# EAGLE library part MCC162B3-1-E (library Fitch_Eagle_Library)
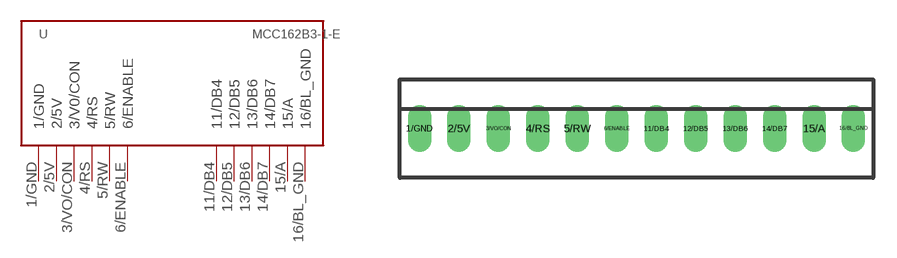
[diagram p2: symbol with the pads of MCC162B3-1-E; footprint MCC162B3-1-E]

Designator prefix -

## MCC162B3-1-E  [MCC162B3-1-E]
1/GND  1/GND
2/5V  2/5V
3/VO/CON  3/V0/CON
4/RS  4/RS
5/RW  5/RW
6/ENABLE  6/ENABLE
11/DB4  11/DB4
12/DB5  12/DB5
13/DB6  13/DB6
14/DB7  14/DB7
15/A  15/A
16/BL_GND  16/BL_GND

## Footprint MCC162B3-1-E (pad centres in mm)
drill 1 long: 1/GND -12.7,0; 2/5V -10.16,0; 3/VO/CON -7.62,0; 4/RS -5.08,0; 5/RW -2.54,0; 6/ENABLE 0,0; 11/DB4 2.54,0; 12/DB5 5.08,0; 13/DB6 7.62,0; 14/DB7 10.16,0; 15/A 12.7,0; 16/BL_GND 15.24,0